# Altium footprint library CONN-STD-MINI_USB_B.PcbLib: 1 footprints
Each footprint in its own frame and in the unit in brackets; x right, y up, seen from the top. Pads: shape width x height; smd on the part's side, far side on the other; paste and mask are expansions set on the pad; w line width, h text height; cw(c..) or ccw(c..) is an arc to the next point about the centre after c.
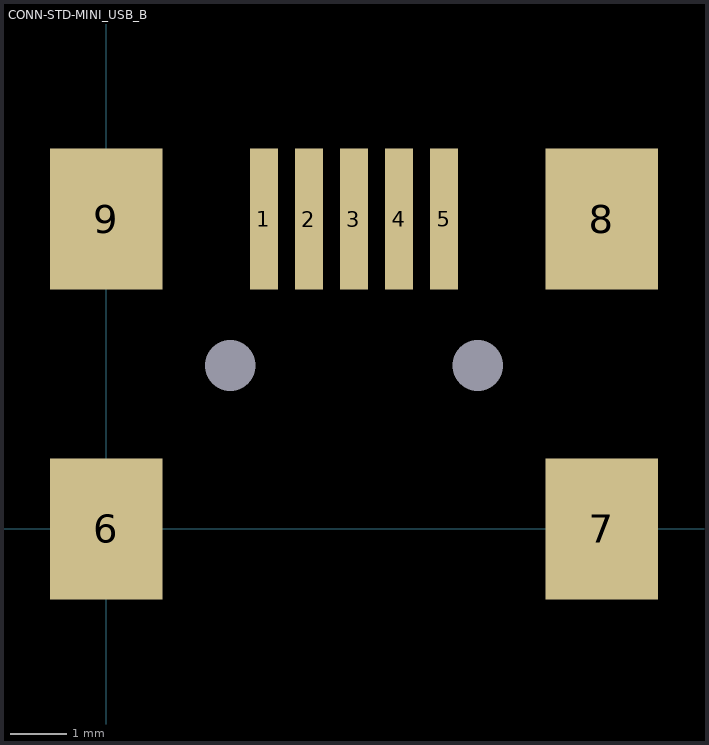
[diagram p0: the footprint, top view; thin cyan lines are the x and y axes]

## CONN-STD-MINI_USB_B [mm]
height 5.33
pads (11):
  rect 0.5x2.5 smd: 1(2.8,5.5) 2(3.6,5.5) 3(4.4,5.5) 4(5.2,5.5) 5(6,5.5)
  rect 2x2.5 smd: 6(0,0) 7(8.8,0) 8(8.8,5.5) 9(0,5.5)
  round 0.8 hole 0.9: ""(2.2,2.9) ""(6.6,2.9)
3D body: height 3.95, standoff -0.95, extent -0.355,-2.974 9.245,6.276